# Altium schematic symbol library LCC127P500X500X155-8N.SchLib: 1 symbol
Pins are listed as number, name and electrical type; pins without a type are passive.

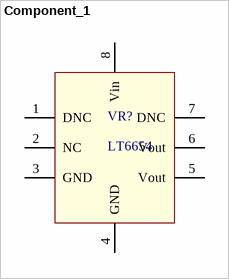
[diagram p0: symbol Component_1]

## Component_1
designator VR?, comment LT6654
footprint LCC127P500X500X155-8N
pins: 1 DNC, 2 NC, 3 GND, 4 GND, 5 Vout, 6 Vout, 7 DNC, 8 Vin